# Altium footprint library RF_Transceiver.PcbLib: 7 footprints
Each footprint in its own frame and in the unit in brackets; x right, y up, seen from the top. Pads: shape width x height; smd on the part's side, far side on the other; paste and mask are expansions set on the pad; w line width, h text height; cw(c..) or ccw(c..) is an arc to the next point about the centre after c.
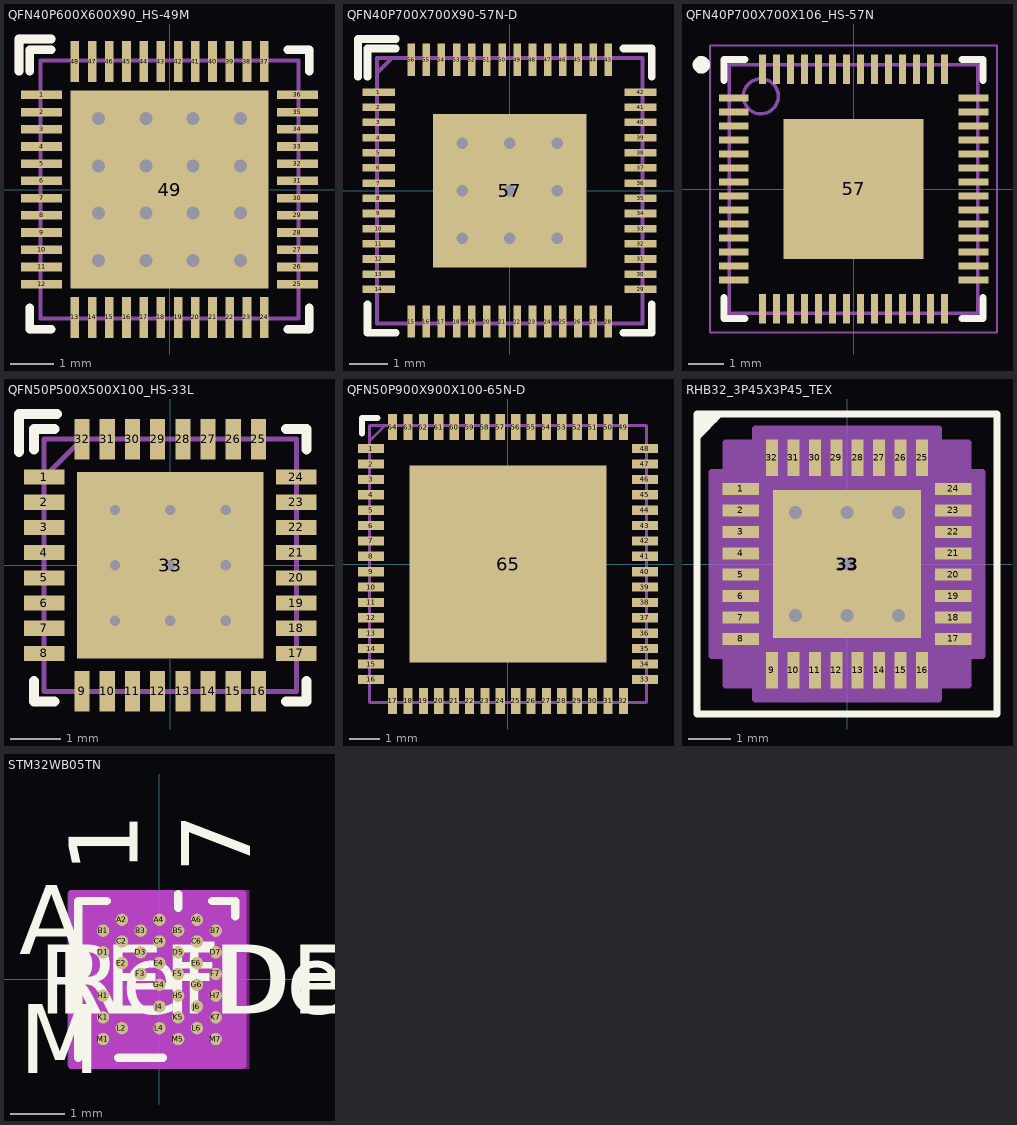
[diagram p0: the footprints below, top view; thin cyan lines are the x and y axes]

## QFN40P600X600X90_HS-49M [mm] "QFN, 48-Leads, Body 6.00x6.00mm, Pitch 0.40mm, Thermal Pad 4.60x4.60mm, IPC Low Density"
height 0.9
pads (49):
  rect 0.95x0.2 smd mask-2539.97: 1(-2.975,2.2) 2(-2.975,1.8) 3(-2.975,1.4) 4(-2.975,1) 5(-2.975,0.6) 6(-2.975,0.2) 7(-2.975,-0.2) 8(-2.975,-0.6) 9(-2.975,-1) 10(-2.975,-1.4) 11(-2.975,-1.8) 12(-2.975,-2.2) 25(2.975,-2.2) 26(2.975,-1.8) 27(2.975,-1.4) 28(2.975,-1) 29(2.975,-0.6) 30(2.975,-0.2) 31(2.975,0.2) 32(2.975,0.6) 33(2.975,1) 34(2.975,1.4) 35(2.975,1.8) 36(2.975,2.2)
  rect 0.2x0.95 smd mask-2539.97: 13(-2.2,-2.975) 14(-1.8,-2.975) 15(-1.4,-2.975) 16(-1,-2.975) 17(-0.6,-2.975) 18(-0.2,-2.975) 19(0.2,-2.975) 20(0.6,-2.975) 21(1,-2.975) 22(1.4,-2.975) 23(1.8,-2.975) 24(2.2,-2.975) 37(2.2,2.975) 38(1.8,2.975) 39(1.4,2.975) 40(1,2.975) 41(0.6,2.975) 42(0.2,2.975) 43(-0.2,2.975) 44(-0.6,2.975) 45(-1,2.975) 46(-1.4,2.975) 47(-1.8,2.975) 48(-2.2,2.975)
  rect 4.6x4.6 smd mask-2539.97: 49(0,0)
via 1.65,-1.65 diameter 0.6 hole 0.3
via 0.55,-1.65 diameter 0.6 hole 0.3
via -0.55,-1.65 diameter 0.6 hole 0.3
via -1.65,-1.65 diameter 0.6 hole 0.3
via 1.65,-0.55 diameter 0.6 hole 0.3
via 0.55,-0.55 diameter 0.6 hole 0.3
via -0.55,-0.55 diameter 0.6 hole 0.3
via -1.65,-0.55 diameter 0.6 hole 0.3
via 1.65,0.55 diameter 0.6 hole 0.3
via 0.55,0.55 diameter 0.6 hole 0.3
via -0.55,0.55 diameter 0.6 hole 0.3
via -1.65,0.55 diameter 0.6 hole 0.3
via 1.65,1.65 diameter 0.6 hole 0.3
via 0.55,1.65 diameter 0.6 hole 0.3
via -0.55,1.65 diameter 0.6 hole 0.3
via -1.65,1.65 diameter 0.6 hole 0.3
Top Overlay:
  lines w0.2: -3.5,2.75 -3.5,3.5 -2.75,3.5 ; -3.25,-2.75 -3.25,-3.25 -2.75,-3.25 ; -3.25,2.75 -3.25,3.25 -2.75,3.25 ; 2.75,-3.25 3.25,-3.25 3.25,-2.75 ; 2.75,3.25 3.25,3.25 3.25,2.75
Top Solder:
  drawing of 49 lines, arcs and shapes, not listed
Top Designator:
  text ".Designator" at -5.668,3.884 h0.51
Mechanical 13:
  lines w0.1: -3,-3 3,-3 3,3 -3,3 -3,-3
  lines w0.2: -3.5,2.75 -3.5,3.5 -2.75,3.5 ; -3.25,-2.75 -3.25,-3.25 -2.75,-3.25 ; -3.25,2.75 -3.25,3.25 -2.75,3.25 ; 2.75,-3.25 3.25,-3.25 3.25,-2.75 ; 2.75,3.25 3.25,3.25 3.25,2.75
Mechanical 15:
  lines w0.05: -2.975,-3 3,-3 3,3 -2.975,3 -2.975,-3
  lines w0.1: -0.5,0 0.5,0 ; 0,-0.5 0,0.5
3D body "QFN40P600X600X90_HS-49M.step": height 0.9, standoff 0, extent -3.051,-3.051 3.051,3.051

## QFN40P700X700X90-57N-D [mm] "ESP32S3"
height 0.9
pads (57):
  rect 0.85x0.2 smd mask-2539.97: 1(-3.45,2.6) 2(-3.45,2.2) 3(-3.45,1.8) 4(-3.45,1.4) 5(-3.45,1) 6(-3.45,0.6) 7(-3.45,0.2) 8(-3.45,-0.2) 9(-3.45,-0.6) 10(-3.45,-1) 11(-3.45,-1.4) 12(-3.45,-1.8) 13(-3.45,-2.2) 14(-3.45,-2.6) 29(3.45,-2.6) 30(3.45,-2.2) 31(3.45,-1.8) 32(3.45,-1.4) 33(3.45,-1) 34(3.45,-0.6) 35(3.45,-0.2) 36(3.45,0.2) 37(3.45,0.6) 38(3.45,1) 39(3.45,1.4) 40(3.45,1.8) 41(3.45,2.2) 42(3.45,2.6)
  rect 0.2x0.85 smd mask-2539.97: 15(-2.6,-3.45) 16(-2.2,-3.45) 17(-1.8,-3.45) 18(-1.4,-3.45) 19(-1,-3.45) 20(-0.6,-3.45) 21(-0.2,-3.45) 22(0.2,-3.45) 23(0.6,-3.45) 24(1,-3.45) 25(1.4,-3.45) 26(1.8,-3.45) 27(2.2,-3.45) 28(2.6,-3.45) 43(2.6,3.45) 44(2.2,3.45) 45(1.8,3.45) 46(1.4,3.45) 47(1,3.45) 48(0.6,3.45) 49(0.2,3.45) 50(-0.2,3.45) 51(-0.6,3.45) 52(-1,3.45) 53(-1.4,3.45) 54(-1.8,3.45) 55(-2.2,3.45) 56(-2.6,3.45)
  rect 4.05x4.05 smd: 57(0,0)
via 1.25,-1.25 diameter 0.5 hole 0.3
via 0,-1.25 diameter 0.5 hole 0.3
via -1.25,-1.25 diameter 0.5 hole 0.3
via -1.25,0 diameter 0.5 hole 0.3
via 0,0 diameter 0.5 hole 0.3
via 1.25,0 diameter 0.5 hole 0.3
via 1.25,1.25 diameter 0.5 hole 0.3
via 0,1.25 diameter 0.5 hole 0.3
via -1.25,1.25 diameter 0.5 hole 0.3
Top Overlay:
  lines w0.2: -4,3 -4,4 -3,4 ; -3.75,-3 -3.75,-3.75 -3,-3.75 ; -3.75,3 -3.75,3.75 -3,3.75 ; 3,-3.75 3.75,-3.75 3.75,-3 ; 3,3.75 3.75,3.75 3.75,3
Top Solder:
  drawing of 56 lines, arcs and shapes, not listed
Top Designator:
  text ".Designator" at -6.039,4.331 h0.51
Mechanical 13:
  lines w0.1: -3.5,3.1 -3.1,3.5 ; -3.5,-3.5 -3.5,3.5 3.5,3.5 3.5,-3.5 -3.5,-3.5
Mechanical 15:
  lines w0.05: -3.5,-3.5 -3.5,3.5 3.5,3.5 3.5,-3.5 -3.5,-3.5
3D body "ESP32-S3FN8.stp": height 0.9, standoff 0, extent -3.55,-3.55 3.55,3.55

## QFN40P700X700X106_HS-57N [mm] "QFN, 56-Leads, Body 7.00x7.00mm, Pitch 0.40mm, Thermal Pad 4.00x4.00mm, IPC Medium Density"
height 1.06
pads (57):
  rect 0.85x0.2 smd mask+0.05: 1(-3.425,2.6) 2(-3.425,2.2) 3(-3.425,1.8) 4(-3.425,1.4) 5(-3.425,1) 6(-3.425,0.6) 7(-3.425,0.2) 8(-3.425,-0.2) 9(-3.425,-0.6) 10(-3.425,-1) 11(-3.425,-1.4) 12(-3.425,-1.8) 13(-3.425,-2.2) 14(-3.425,-2.6) 29(3.425,-2.6) 30(3.425,-2.2) 31(3.425,-1.8) 32(3.425,-1.4) 33(3.425,-1) 34(3.425,-0.6) 35(3.425,-0.2) 36(3.425,0.2) 37(3.425,0.6) 38(3.425,1) 39(3.425,1.4) 40(3.425,1.8) 41(3.425,2.2) 42(3.425,2.6)
  rect 0.2x0.85 smd mask+0.05: 15(-2.6,-3.425) 16(-2.2,-3.425) 17(-1.8,-3.425) 18(-1.4,-3.425) 19(-1,-3.425) 20(-0.6,-3.425) 21(-0.2,-3.425) 22(0.2,-3.425) 23(0.6,-3.425) 24(1,-3.425) 25(1.4,-3.425) 26(1.8,-3.425) 27(2.2,-3.425) 28(2.6,-3.425) 43(2.6,3.425) 44(2.2,3.425) 45(1.8,3.425) 46(1.4,3.425) 47(1,3.425) 48(0.6,3.425) 49(0.2,3.425) 50(-0.2,3.425) 51(-0.6,3.425) 52(-1,3.425) 53(-1.4,3.425) 54(-1.8,3.425) 55(-2.2,3.425) 56(-2.6,3.425)
  rect 4x4 smd mask+0.05: 57(0,0)
Top Overlay:
  circle w0.25: c-4.35,3.55 r0.125
  lines w0.2: -3.7,-3.1 -3.7,-3.7 -3.1,-3.7 ; -3.7,3.1 -3.7,3.7 -3.1,3.7 ; 3.1,-3.7 3.7,-3.7 3.7,-3.1 ; 3.1,3.7 3.7,3.7 3.7,3.1
Top Designator:
  text ".Designator" at -6.039,4.081 h0.51
Mechanical 13:
  circle w0.1: c-2.65,2.65 r0.5
  lines w0.1: -3.55,-3.55 3.55,-3.55 3.55,3.55 -3.55,3.55 -3.55,-3.55
Mechanical 15:
  lines w0.05: -4.1,-4.1 4.1,-4.1 4.1,4.1 -4.1,4.1 -4.1,-4.1
  lines w0.1: -0.5,0 0.5,0 ; 0,-0.5 0,0.5
3D body "QFN56_7X7_EXP.step": height 0.89, standoff 0, extent -3.537,-3.529 3.513,3.521

## QFN50P500X500X100_HS-33L [mm] "QFN, 32-Leads, Body 5.00x5.00mm, Pitch 0.50mm, Thermal Pad 3.70x3.70mm, IPC High Density"
height 1
pads (33):
  rect 0.8x0.3 smd mask-2539.97: 1(-2.5,1.75) 2(-2.5,1.25) 3(-2.5,0.75) 4(-2.5,0.25) 5(-2.5,-0.25) 6(-2.5,-0.75) 7(-2.5,-1.25) 8(-2.5,-1.75) 17(2.5,-1.75) 18(2.5,-1.25) 19(2.5,-0.75) 20(2.5,-0.25) 21(2.5,0.25) 22(2.5,0.75) 23(2.5,1.25) 24(2.5,1.75)
  rect 0.3x0.8 smd mask-2539.97: 9(-1.75,-2.5) 10(-1.25,-2.5) 11(-0.75,-2.5) 12(-0.25,-2.5) 13(0.25,-2.5) 14(0.75,-2.5) 15(1.25,-2.5) 16(1.75,-2.5) 25(1.75,2.5) 26(1.25,2.5) 27(0.75,2.5) 28(0.25,2.5) 29(-0.25,2.5) 30(-0.75,2.5) 31(-1.25,2.5) 32(-1.75,2.5)
  rect 3.7x3.7 smd mask-2539.97: 33(0,0)
via -1.1,1.1 diameter 0.5 hole 0.2
via 0,1.1 diameter 0.5 hole 0.2
via 1.1,1.1 diameter 0.5 hole 0.2
via -1.1,0 diameter 0.5 hole 0.2
via 0,0 diameter 0.5 hole 0.2
via 1.1,0 diameter 0.5 hole 0.2
via -1.1,-1.1 diameter 0.5 hole 0.2
via 0,-1.1 diameter 0.5 hole 0.2
via 1.1,-1.1 diameter 0.5 hole 0.2
Top Overlay:
  lines w0.2: -3,2.25 -3,3 -2.25,3 ; -2.7,-2.3 -2.7,-2.7 -2.3,-2.7 ; -2.7,2.3 -2.7,2.7 -2.3,2.7 ; 2.3,-2.7 2.7,-2.7 2.7,-2.3 ; 2.3,2.7 2.7,2.7 2.7,2.3
Top Solder:
  region: -2.95,1.55 -2.95,1.95 -2.05,1.95 -2.05,1.55
  region: -2.95,1.05 -2.95,1.45 -2.05,1.45 -2.05,1.05
  region: -2.95,0.55 -2.95,0.95 -2.05,0.95 -2.05,0.55
  region: -2.95,0.05 -2.95,0.45 -2.05,0.45 -2.05,0.05
  region: -2.95,-0.45 -2.95,-0.05 -2.05,-0.05 -2.05,-0.45
  region: -2.95,-0.95 -2.95,-0.55 -2.05,-0.55 -2.05,-0.95
  region: -2.95,-1.45 -2.95,-1.05 -2.05,-1.05 -2.05,-1.45
  region: -2.95,-1.95 -2.95,-1.55 -2.05,-1.55 -2.05,-1.95
  region: -1.95,-2.95 -1.95,-2.05 -1.55,-2.05 -1.55,-2.95
  region: -1.45,-2.95 -1.45,-2.05 -1.05,-2.05 -1.05,-2.95
  region: -0.95,-2.95 -0.95,-2.05 -0.55,-2.05 -0.55,-2.95
  region: -0.45,-2.95 -0.45,-2.05 -0.05,-2.05 -0.05,-2.95
  region: 0.05,-2.95 0.05,-2.05 0.45,-2.05 0.45,-2.95
  region: 0.55,-2.95 0.55,-2.05 0.95,-2.05 0.95,-2.95
  region: 1.05,-2.95 1.05,-2.05 1.45,-2.05 1.45,-2.95
  region: 1.55,-2.95 1.55,-2.05 1.95,-2.05 1.95,-2.95
  region: 2.05,-1.95 2.05,-1.55 2.95,-1.55 2.95,-1.95
  region: 2.05,-1.45 2.05,-1.05 2.95,-1.05 2.95,-1.45
  region: 2.05,-0.95 2.05,-0.55 2.95,-0.55 2.95,-0.95
  region: 2.05,-0.45 2.05,-0.05 2.95,-0.05 2.95,-0.45
  region: 2.05,0.05 2.05,0.45 2.95,0.45 2.95,0.05
  region: 2.05,0.55 2.05,0.95 2.95,0.95 2.95,0.55
  region: 2.05,1.05 2.05,1.45 2.95,1.45 2.95,1.05
  region: 2.05,1.55 2.05,1.95 2.95,1.95 2.95,1.55
  region: 1.55,2.05 1.55,2.95 1.95,2.95 1.95,2.05
  region: 1.05,2.05 1.05,2.95 1.45,2.95 1.45,2.05
  region: 0.55,2.05 0.55,2.95 0.95,2.95 0.95,2.05
  region: 0.05,2.05 0.05,2.95 0.45,2.95 0.45,2.05
  region: -0.45,2.05 -0.45,2.95 -0.05,2.95 -0.05,2.05
  region: -0.95,2.05 -0.95,2.95 -0.55,2.95 -0.55,2.05
  region: -1.45,2.05 -1.45,2.95 -1.05,2.95 -1.05,2.05
  region: -1.95,2.05 -1.95,2.95 -1.55,2.95 -1.55,2.05
  region: -1.9,-1.9 -1.9,1.9 1.9,1.9 1.9,-1.9
Mechanical 13:
  lines w0.1: -2.5,1.75 -1.75,2.5 ; -2.5,-2.5 -2.5,2.5 2.5,2.5 2.5,-2.5 -2.5,-2.5
Mechanical 15:
  lines w0.05: -2.5,-2.5 -2.5,2.5 2.5,2.5 2.5,-2.5 -2.5,-2.5
  lines w0.1: -0.5,0 0.5,0 ; 0,-0.5 0,0.5
3D body "QFN50P500X500X100_HS-33L.step": height 1, standoff 0, extent -2.551,-2.551 2.551,2.551

## QFN50P900X900X100-65N-D [mm]
pads (65):
  rect 0.85x0.3 smd mask+0.05: 1(-4.45,3.75) 2(-4.45,3.25) 3(-4.45,2.75) 4(-4.45,2.25) 5(-4.45,1.75) 6(-4.45,1.25) 7(-4.45,0.75) 8(-4.45,0.25) 9(-4.45,-0.25) 10(-4.45,-0.75) 11(-4.45,-1.25) 12(-4.45,-1.75) 13(-4.45,-2.25) 14(-4.45,-2.75) 15(-4.45,-3.25) 16(-4.45,-3.75) 33(4.45,-3.75) 34(4.45,-3.25) 35(4.45,-2.75) 36(4.45,-2.25) 37(4.45,-1.75) 38(4.45,-1.25) 39(4.45,-0.75) 40(4.45,-0.25) 41(4.45,0.25) 42(4.45,0.75) 43(4.45,1.25) 44(4.45,1.75) 45(4.45,2.25) 46(4.45,2.75) 47(4.45,3.25) 48(4.45,3.75)
  rect 0.3x0.85 smd mask+0.05: 17(-3.75,-4.45) 18(-3.25,-4.45) 19(-2.75,-4.45) 20(-2.25,-4.45) 21(-1.75,-4.45) 22(-1.25,-4.45) 23(-0.75,-4.45) 24(-0.25,-4.45) 25(0.25,-4.45) 26(0.75,-4.45) 27(1.25,-4.45) 28(1.75,-4.45) 29(2.25,-4.45) 30(2.75,-4.45) 31(3.25,-4.45) 32(3.75,-4.45) 49(3.75,4.45) 50(3.25,4.45) 51(2.75,4.45) 52(2.25,4.45) 53(1.75,4.45) 54(1.25,4.45) 55(0.75,4.45) 56(0.25,4.45) 57(-0.25,4.45) 58(-0.75,4.45) 59(-1.25,4.45) 60(-1.75,4.45) 61(-2.25,4.45) 62(-2.75,4.45) 63(-3.25,4.45) 64(-3.75,4.45)
  rect 6.4x6.4 smd mask+0.05: 65(0,0)
Top Overlay:
  lines w0.2: -4.75,4.25 -4.75,4.75 -4.25,4.75
Top Designator:
  text ".Designator" at -7.039,5.081 h0.51
Mechanical 13:
  lines w0.1: -4.5,4 -4,4.5 ; -4.5,-4.5 -4.5,4.5 4.5,4.5 4.5,-4.5 -4.5,-4.5
Mechanical 15:
  lines w0.05: -4.5,-4.5 -4.5,4.5 4.5,4.5 4.5,-4.5 -4.5,-4.5
3D body "CC3135RNMRGKR.stp": height 1, standoff 0, extent -4.5,-4.5 4.5,4.5

## RHB32_3P45X3P45_TEX [mm]
pads (34):
  rect 0.85x0.28 smd paste-0.14 mask+0: 1(-2.475,1.75) 2(-2.475,1.25) 3(-2.475,0.75) 4(-2.475,0.25) 5(-2.475,-0.25) 6(-2.475,-0.75) 7(-2.475,-1.25) 8(-2.475,-1.75) 17(2.475,-1.75) 18(2.475,-1.25) 19(2.475,-0.75) 20(2.475,-0.25) 21(2.475,0.25) 22(2.475,0.75) 23(2.475,1.25) 24(2.475,1.75)
  rect 0.28x0.85 smd paste-0.14 mask+0: 9(-1.75,-2.475) 10(-1.25,-2.475) 11(-0.75,-2.475) 12(-0.25,-2.475) 13(0.25,-2.475) 14(0.75,-2.475) 15(1.25,-2.475) 16(1.75,-2.475) 25(1.75,2.475) 26(1.25,2.475) 27(0.75,2.475) 28(0.25,2.475) 29(-0.25,2.475) 30(-0.75,2.475) 31(-1.25,2.475) 32(-1.75,2.475)
  round 0.6 hole 0.3 paste-2539.97 mask-0.254: 33(0,0)
  rect 3.45x3.45 smd paste-1.712 mask-1.714: 33(0,0)
via -1.2,1.2 diameter 0.6 hole 0.3
via 0,1.2 diameter 0.6 hole 0.3
via 1.2,1.2 diameter 0.6 hole 0.3
via 1.2,-1.2 diameter 0.6 hole 0.3
via 0,-1.2 diameter 0.6 hole 0.3
via -1.2,-1.2 diameter 0.6 hole 0.3
Top Overlay:
  lines w0.1: -3.48,2.87 -3.48,2.946 -2.972,3.454 ; -3.48,2.908 -3.48,3.004 -3.336,3.147 -3.336,3.255 -3.348,3.244 -3.348,3.216 -3.419,3.287 -3.419,3.419 -3.363,3.363 -3.363,3.231 ; -3.393,3.393 -3.393,3.262 -3.363,3.231 ; -3.283,3.2 -3.226,3.258 -3.226,3.368 ; -3.393,3.2 -3.279,3.315 -3.279,3.376 -3.2,3.454 -2.972,3.454 ; -3.393,3.2 -3.34,3.2 -3.226,3.315 -3.226,3.2 -3.226,3.429 -3.251,3.454 -3.393,3.312 -3.393,3.2 ; -3.393,3.2 -3.48,3.287 -3.383,3.383 -3.322,3.383 -3.322,3.5 -3.277,3.454 -2.972,3.454 ; -3.363,3.231 -3.48,3.114 -3.48,3.061 -3.31,3.231 -3.252,3.231 -3.14,3.343 -3.083,3.343 -3.058,3.368 -3.226,3.368 ; -3.363,3.231 -3.139,3.454 ; -3.226,3.368 -3.139,3.454 ; -3.226,3.368 -3.139,3.454 ; -3.139,3.454 -2.972,3.454
  lines w0.152: -3.5,-3.5 -3.5,3.5 3.5,3.5 3.5,-3.5 -3.5,-3.5
Top Paste:
  drawing of 25 lines, arcs and shapes, not listed
Top Designator:
  text ".Designator" at -5.789,3.831 h0.51
Mechanical 13:
  lines w0.025: -2.575,1.305 -1.305,2.575 ; -2.575,-2.575 2.575,-2.575 2.575,2.575 -2.575,2.575 -2.575,-2.575
  text "*" at -2.113,1.365 h1.27
Mechanical 15:
  region: -2.144,-2.829 -2.829,-2.829 -2.829,-2.144 -3.154,-2.144 -3.154,2.144 -2.829,2.144 -2.829,2.829 -2.144,2.829 -2.144,3.154 2.144,3.154 2.144,2.829 2.829,2.829 2.829,2.144 3.154,2.144 3.154,-2.144 2.829,-2.144 2.829,-2.829 2.144,-2.829 2.144,-3.154 -2.144,-3.154
  lines w0.152: -3.154,-2.144 -2.829,-2.144 -2.829,-2.829 -2.144,-2.829 -2.144,-3.154 2.144,-3.154 2.144,-2.829 2.829,-2.829 2.829,-2.144 3.154,-2.144 3.154,2.144 2.829,2.144 2.829,2.829 2.144,2.829 2.144,3.154 -2.144,3.154 -2.144,2.829 -2.829,2.829 -2.829,2.144 -3.154,2.144 -3.154,-2.144
3D body "RHB32_3P45X3P45_TEX.step": height 1.4, standoff 0, extent -2.626,-2.626 2.626,2.626

## STM32WB05TN [mil]
pads (36):
  round 9 smd paste+0 mask+0: A2(-27.28,43.31) A4(0,43.31) A6(27.28,43.31) B1(-40.91,35.43) B3(-13.64,35.43) B5(13.64,35.43) B7(40.91,35.43) C2(-27.28,27.56) C4(0,27.56) C6(27.28,27.56) D1(-40.91,19.68) D3(-13.64,19.68) D5(13.64,19.68) D7(40.91,19.68) E2(-27.28,11.81) E4(0,11.81) E6(27.28,11.81) F3(-13.64,3.94) F5(13.64,3.94) F7(40.91,3.94) G4(0,-3.94) G6(27.28,-3.94) H1(-40.91,-11.81) H5(13.64,-11.81) H7(40.91,-11.81) J4(0,-19.68) J6(27.28,-19.68) K1(-40.91,-27.56) K5(13.64,-27.56) K7(40.91,-27.56) L2(-27.28,-35.43) L4(0,-35.43) L6(27.28,-35.43) M1(-40.91,-43.31) M5(13.64,-43.31) M7(40.91,-43.31)
Top Overlay:
  lines w6: -58.9,-57 -58.9,57 -38.33,57 ; -29.86,-57 2.58,-57 ; 13.64,52 13.64,62 ; 38.33,57 55.1,57 55.1,45.85
  text "REFDES" at -87.5,-25 h50
  text "RefDes" at -75,-25 h50
  text "7" at 65.91,77 h50
  text "1" at -15.91,77 h50
  text "M" at -102,-68.31 h50
  text "A" at -102,18.31 h50
Bottom Overlay:
  text "7" at 15.91,77 h50
  text "1" at -65.91,77 h50
  text "M" at -77,-68.31 h50
  text "A" at -77,18.31 h50
Keep-Out Layer:
  region: -65.23,-64.74 -65.23,64.74 65.23,64.74 65.23,-64.74
Top Designator:
  text ".Designator" at -236.37,1.01 h60
Mechanical 13:
  lines w1: -53.9,48.06 -47.08,52 ; -53.9,-52 -53.9,52 50.1,52 50.1,-52 -53.9,-52
  text "RefDes2" at -87.5,-25 h50
  text "7" at 65.91,77 h50
  text "1" at -15.91,77 h50
  text "M" at -102,-68.31 h50
  text "A" at -102,18.31 h50
Mechanical 15:
  region: 60.1,-62 -63.9,-62 -63.9,62 60.1,62
  lines w6: -63.9,-62 60.1,-62 60.1,62 -63.9,62 -63.9,-62
3D body "WLCSP36_2P652X2P592_STM.step": height 17.09, standoff -0.01, extent -52.01,-52.01 52.01,52.01